# EAGLE library part TA7291F (library MOTORDRV)
Bridge Motor Driver TOSHIBA
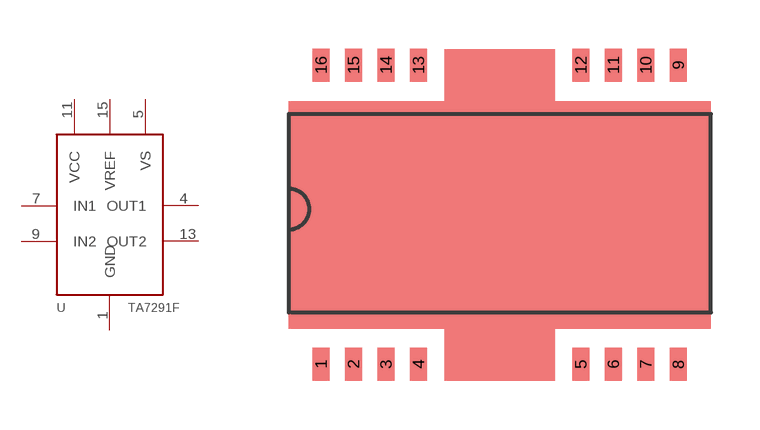
[diagram p2: symbol with the pads of HSOP16; footprint HSOP16]

Designator prefix U

## TA7291F  [HSOP16]
1  GND  pwr
4  OUT1  out
5  VS  pwr
7  IN1  in
9  IN2  in
11  VCC  pwr
13  OUT2  out
15  VREF  pwr

## Footprint HSOP16 (pad centres in mm)
HSOP16-P-300-1.0
smd 0.508 x 1.016: 1 1,-1.6; 2 2,-1.6; 3 3,-1.6; 4 4,-1.6; 5 9,-1.6; 6 10,-1.6; 7 11,-1.6; 8 12,-1.6; 9 12,7.6; 10 11,7.6; 11 10,7.6; 12 9,7.6; 13 4,7.6; 14 3,7.6; 15 2,7.6; 16 1,7.6